# Altium schematic symbol library CRYSTAL 12MHZ.SchLib: 1 symbol
Pins are listed as number, name and electrical type; pins without a type are passive.

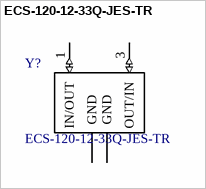
[diagram p0: symbol ECS-120-12-33Q-JES-TR]

## ECS-120-12-33Q-JES-TR
designator Y?
AEC-Q200 qualified, Crystal, Ceramic Seam Seal, 12.000MHZ, 12pf, 20ppm @ 25C, 50ppm -40+125C, 3.2 x 2.5 x 0.8mm; MF: ECS Inc.; Digi-Key_Purchase_URL: https://www.digikey.pt/product-detail/en/ecs-inc/ECS-120-12-33Q-JES-TR/XC2143CT-ND/6050972?utm_source=snapeda&utm_medium=aggregator&utm_campaign=symbol; Digi-Key_Part_Number: XC2143CT-ND; SnapEDA_Link: https://www.snapeda.com/parts/ECS-120-12-33Q-JES-TR/ECS%20Inc./view-part/?ref=snap; Package: SMD-4 ECS International; MP: ECS-120-12-33Q-JES-TR; Value: *
footprint XTAL_ECS-120-12-33Q-JES-TR
pins: 1 IN/OUT (io), 2 GND, 3 OUT/IN (io), 4 GND (power)